# EAGLE library part TDA21490 (library ruark2)
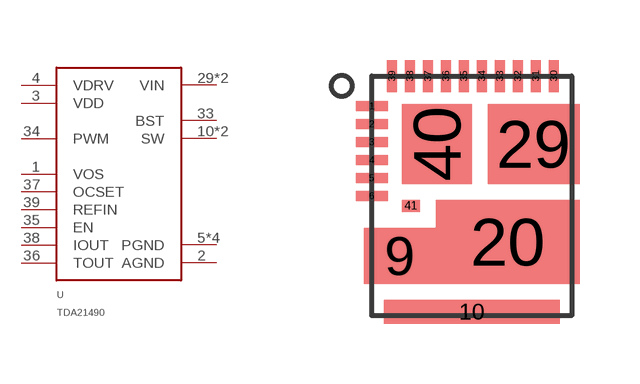
[diagram p177: symbol with the pads of MP86952; footprint MP86952]

Designator prefix -

## TDA21490  [MP86952]
1  VOS
2  AGND
3  VDD
4  VDRV
5  PGND
9  PGND
10  SW
20  PGND
29  VIN
30  VIN
32  SW
33  BST
34  PWM
35  EN
36  TOUT
37  OCSET
38  IOUT
39  REFIN
40  PGND

## Footprint MP86952 (pad centres in mm)
smd 0.8 x 0.25: 1 -2.5,2.25; 2 -2.5,1.8; 3 -2.5,1.35; 4 -2.5,0.9; 5 -2.5,0.45; 6 -2.5,0
smd 1.8 x 1.4: 9 -1.8,-1.5
smd 4.4 x 0.6: 10 0,-2.9
smd 3.6 x 2.1: 20 0.9,-1.15
smd 2.3 x 2: 29 1.55,1.3
smd 0.25 x 0.8: 30 2.05,3; 31 1.6,3; 32 1.15,3; 33 0.7,3; 34 0.25,3; 35 -0.2,3; 36 -0.65,3; 37 -1.1,3; 38 -1.55,3; 39 -2,3
smd 1.75 x 2: 40 -0.875,1.3
smd 0.45 x 0.3: 41 -1.525,-0.25